# Altium integrated library Analog Devices Switches and Multiplexers Analog Switches.IntLib: 575 symbols (part 18 of 23)
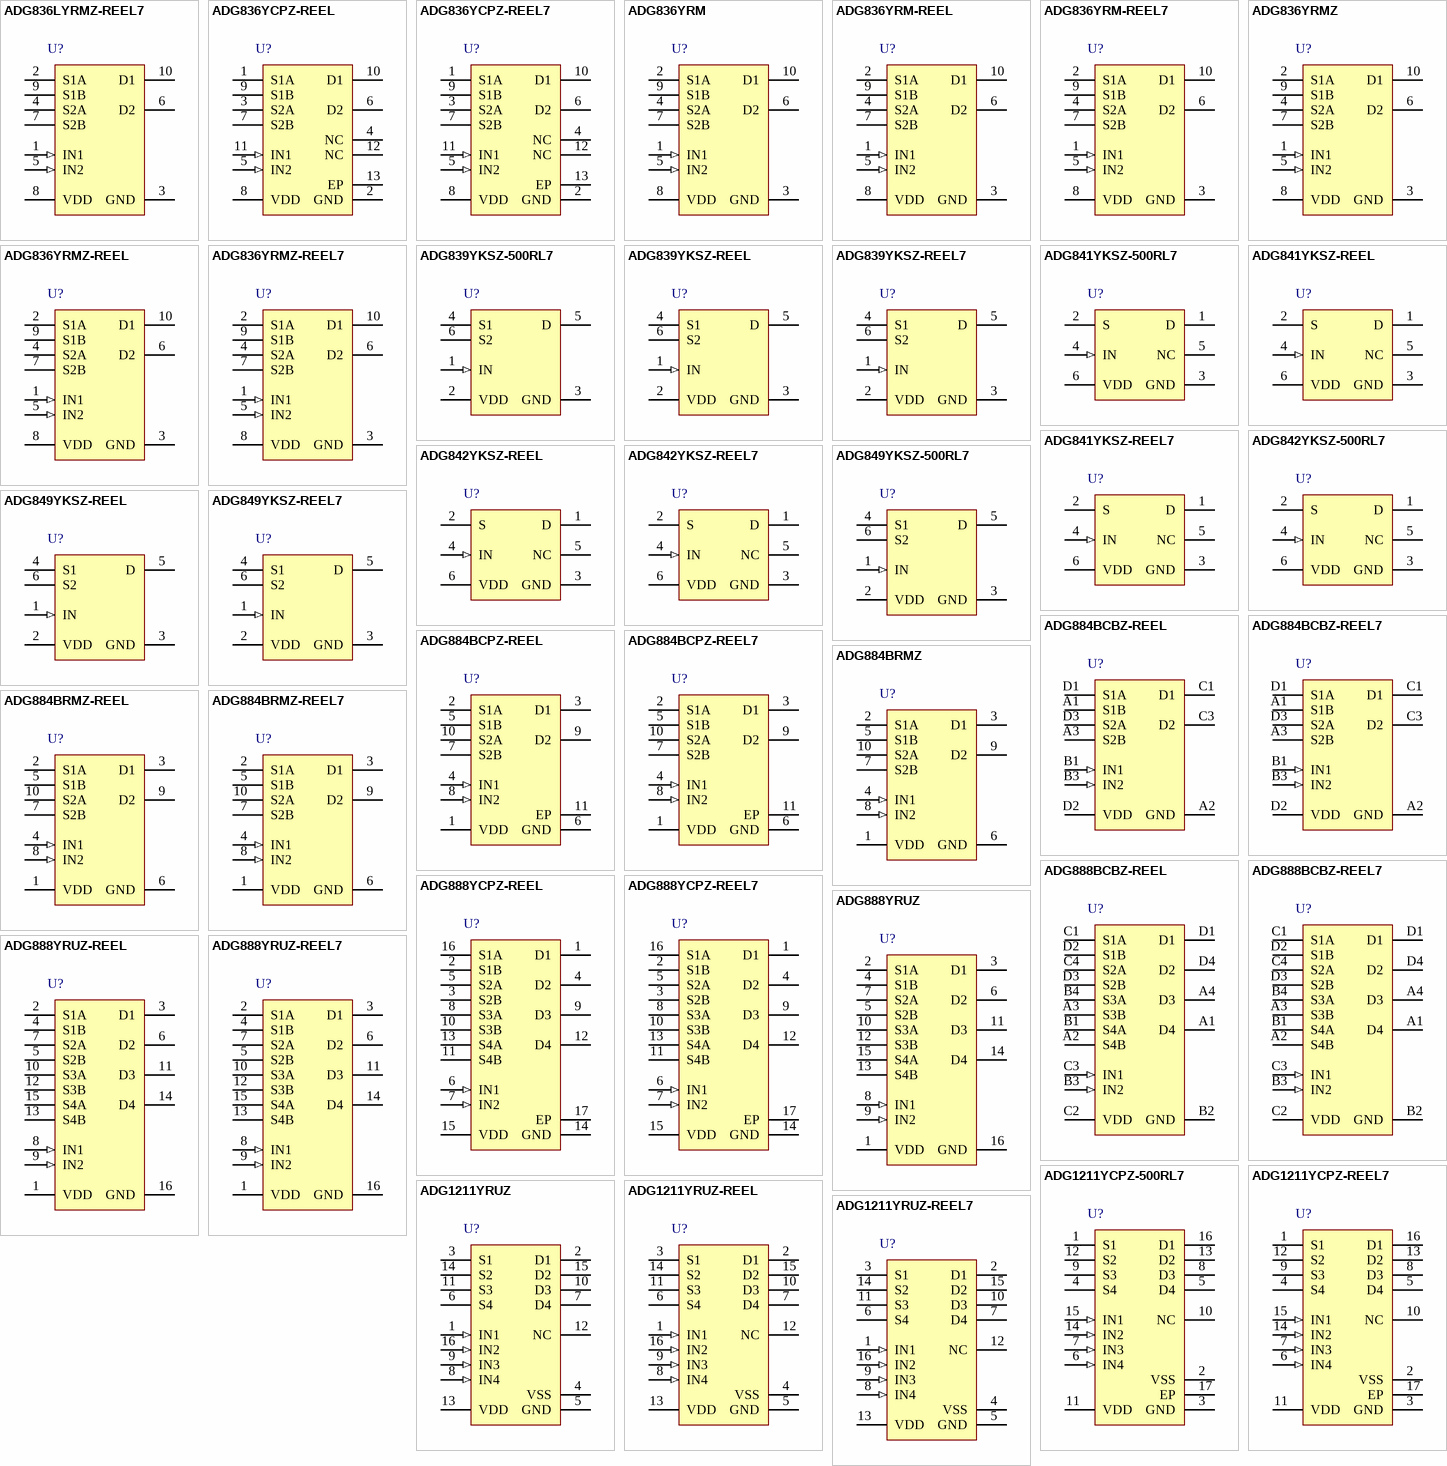
[diagram p32: symbols ADG836LYRMZ-REEL7 to ADG1211YRUZ-REEL7]

## ADG888YCPZ-REEL
designator U?
0.4 Ohm CMOS, Dual DPDT Switches, -40 to 125 degC, 16-pin QFN (CP-16-4), Reel; Manufacturer: Analog Devices; PartNumber: ADG888YCPZ-REEL; # Sw Functions: 2; Configuration: SPDT; Id, Is (ON): 200pA, 200pA, 200pA; Max Pos Supply: 5.5V; Min Pos Supply: 1.8V; Power Dissipation: 20uW; Ron (ohms): 0.4; DatasheetVersion: Rev. A; PackageVersion: 010606-0, 01/2006; PackageReference: CP-16-4; PackageDescription: 16-Pin Lead Frame Chip Scale Package, Body 4 x 4 mm, Pitch 0.65 mm; Supplier 1: Digi-Key; Supplier Part Number 1: ADG888YCPZ-REEL-ND; Supplier 2: Mouser; Supplier Part Number 2: 584-ADG888YCPZ-R; Is OFF: 200pA, 200pA, 200pA; Packing: Reel; Mounting Technology: Surface Mount; Code_JEDEC: MO-220-VGGC; ComponentLink1Description: Manufacturer URL; ComponentLink1URL: http://www.analog.com/en/index.html; ComponentLink2Description: Datasheet; ComponentLink2URL: http://www.analog.com/static/imported-files/data_sheets/ADG888.pdf; ComponentLink3Description: Package Specification; ComponentLink3URL: http://www.analog.com/static/imported-files/packages/46009454504174339653421710019CP_16_4.pdf
footprint CP-16-4_N (QFN, 16-Leads, Body 4x4mm, Pitch 0.65mm, Thermal Pad 2.1x2.1mm, IPC Medium Density)
footprint CP-16-4_L (QFN, 16-Leads, Body 4x4mm, Pitch 0.65mm, Thermal Pad 2.1x2.1mm, IPC High Density)
footprint CP-16-4_M (QFN, 16-Leads, Body 4x4mm, Pitch 0.65mm, Thermal Pad 2.1x2.1mm, IPC Low Density)
pins: 1 D1 "Drain Terminal. Can be an input or output.", 2 S1B "Source Terminal. Can be an input or output.", 3 S2B "Source Terminal. Can be an input or output.", 4 D2 "Drain Terminal. Can be an input or output.", 5 S2A "Source Terminal. Can be an input or output.", 6 IN1 (in) "Logic Control Input.", 7 IN2 (in) "Logic Control Input.", 8 S3A "Source Terminal. Can be an input or output.", 9 D3 "Drain Terminal. Can be an input or output.", 10 S3B "Source Terminal. Can be an input or output.", 11 S4B "Source Terminal. Can be an input or output.", 12 D4 "Drain Terminal. Can be an input or output.", 13 S4A "Source Terminal. Can be an input or output.", 14 GND (power) "Ground (0 V) Reference.", 15 VDD (power) "Most Positive Power Supply Potential.", 16 S1A "Source Terminal. Can be an input or output.", 17 EP "Exposed Pad Type"

## ADG888YCPZ-REEL7
designator U?
0.4 Ohm CMOS, Dual DPDT Switches, -40 to 125 degC, 16-pin QFN (CP-16-4), Reel; Manufacturer: Analog Devices; PartNumber: ADG888YCPZ-REEL7; # Sw Functions: 2; Configuration: SPDT; Id, Is (ON): 200pA, 200pA, 200pA; Max Pos Supply: 5.5V; Min Pos Supply: 1.8V; Power Dissipation: 20uW; Ron (ohms): 0.4; DatasheetVersion: Rev. A; PackageVersion: 010606-0, 01/2006; PackageReference: CP-16-4; PackageDescription: 16-Pin Lead Frame Chip Scale Package, Body 4 x 4 mm, Pitch 0.65 mm; Supplier 1: Digi-Key; Supplier Part Number 1: ADG888YCPZ-REEL7TR-ND; Supplier 2: Digi-Key; Supplier Part Number 2: ADG888YCPZ-REEL7CT-ND; Supplier 3: Digi-Key; Supplier Part Number 3: ADG888YCPZ-REEL7DKR-ND; Supplier 4: Farnell; Supplier Part Number 4: 2312951; Supplier 5: Newark; Supplier Part Number 5: 59K1681; Supplier 6: Newark; Supplier Part Number 6: 67W3132; Supplier 7: Mouser; Supplier Part Number 7: 584-ADG888YCPZ-R7; Is OFF: 200pA, 200pA, 200pA; Packing: Reel; Mounting Technology: Surface Mount; Code_JEDEC: MO-220-VGGC; ComponentLink1Description: Manufacturer URL; ComponentLink1URL: http://www.analog.com/en/index.html; ComponentLink2Description: Datasheet; ComponentLink2URL: http://www.analog.com/static/imported-files/data_sheets/ADG888.pdf; ComponentLink3Description: Package Specification; ComponentLink3URL: http://www.analog.com/static/imported-files/packages/46009454504174339653421710019CP_16_4.pdf
footprint CP-16-4_N (QFN, 16-Leads, Body 4x4mm, Pitch 0.65mm, Thermal Pad 2.1x2.1mm, IPC Medium Density)
footprint CP-16-4_L (QFN, 16-Leads, Body 4x4mm, Pitch 0.65mm, Thermal Pad 2.1x2.1mm, IPC High Density)
footprint CP-16-4_M (QFN, 16-Leads, Body 4x4mm, Pitch 0.65mm, Thermal Pad 2.1x2.1mm, IPC Low Density)
pins: 1 D1 "Drain Terminal. Can be an input or output.", 2 S1B "Source Terminal. Can be an input or output.", 3 S2B "Source Terminal. Can be an input or output.", 4 D2 "Drain Terminal. Can be an input or output.", 5 S2A "Source Terminal. Can be an input or output.", 6 IN1 (in) "Logic Control Input.", 7 IN2 (in) "Logic Control Input.", 8 S3A "Source Terminal. Can be an input or output.", 9 D3 "Drain Terminal. Can be an input or output.", 10 S3B "Source Terminal. Can be an input or output.", 11 S4B "Source Terminal. Can be an input or output.", 12 D4 "Drain Terminal. Can be an input or output.", 13 S4A "Source Terminal. Can be an input or output.", 14 GND (power) "Ground (0 V) Reference.", 15 VDD (power) "Most Positive Power Supply Potential.", 16 S1A "Source Terminal. Can be an input or output.", 17 EP "Exposed Pad Type"

## ADG888YRUZ
designator U?
0.4 Ohm CMOS, Dual DPDT Switches, -40 to 125 degC, 16-pin SOP (RU-16), Tube; Manufacturer: Analog Devices; PartNumber: ADG888YRUZ; # Sw Functions: 2; Configuration: SPDT; Id, Is (ON): 200pA, 200pA, 200pA; Max Pos Supply: 5.5V; Min Pos Supply: 1.8V; Power Dissipation: 20uW; Ron (ohms): 0.4; DatasheetVersion: Rev. A; PackageVersion: Nov-02; PackageReference: RU-16; PackageDescription: 16-Pin Thin Shrink Small Outline Package, Body 5 x 4.4 mm, Pitch 0.65 mm; Supplier 1: Digi-Key; Supplier Part Number 1: ADG888YRUZ-ND; Supplier 2: Farnell; Supplier Part Number 2: 1117866; Supplier 3: Newark; Supplier Part Number 3: 19M0698; Supplier 4: Mouser; Supplier Part Number 4: 584-ADG888YRUZ; Is OFF: 200pA, 200pA, 200pA; Packing: Tube; Mounting Technology: Surface Mount; Code_JEDEC: MO-153AB; ComponentLink1Description: Manufacturer URL; ComponentLink1URL: http://www.analog.com/en/index.html; ComponentLink2Description: Datasheet; ComponentLink2URL: http://www.analog.com/static/imported-files/data_sheets/ADG888.pdf; ComponentLink3Description: Package Specification; ComponentLink3URL: http:/www.analog.com/static/imported-files/packages/36244347913743854010197452789RU16.pdf
footprint ADI-RU-16_N (SOP, 16-Leads, Body 5x4.4mm, Pitch 0.65mm, IPC Medium Density)
footprint ADI-RU-16_L (SOP, 16-Leads, Body 5x4.4mm, Pitch 0.65mm, IPC High Density)
footprint ADI-RU-16_M (SOP, 16-Leads, Body 5x4.4mm, Pitch 0.65mm, IPC Low Density)
pins: 1 VDD (power) "Most Positive Power Supply Potential.", 2 S1A "Source Terminal. Can be an input or output.", 3 D1 "Drain Terminal. Can be an input or output.", 4 S1B "Source Terminal. Can be an input or output.", 5 S2B "Source Terminal. Can be an input or output.", 6 D2 "Drain Terminal. Can be an input or output.", 7 S2A "Source Terminal. Can be an input or output.", 8 IN1 (in) "Logic Control Input.", 9 IN2 (in) "Logic Control Input.", 10 S3A "Source Terminal. Can be an input or output.", 11 D3 "Drain Terminal. Can be an input or output.", 12 S3B "Source Terminal. Can be an input or output.", 13 S4B "Source Terminal. Can be an input or output.", 14 D4 "Drain Terminal. Can be an input or output.", 15 S4A "Source Terminal. Can be an input or output.", 16 GND (power) "Ground (0 V) Reference."

## ADG888YRUZ-REEL
designator U?
0.4 Ohm CMOS, Dual DPDT Switches, -40 to 125 degC, 16-pin SOP (RU-16), Reel; Manufacturer: Analog Devices; PartNumber: ADG888YRUZ-REEL; # Sw Functions: 2; Configuration: SPDT; Id, Is (ON): 200pA, 200pA, 200pA; Max Pos Supply: 5.5V; Min Pos Supply: 1.8V; Power Dissipation: 20uW; Ron (ohms): 0.4; DatasheetVersion: Rev. A; PackageVersion: Nov-02; PackageReference: RU-16; PackageDescription: 16-Pin Thin Shrink Small Outline Package, Body 5 x 4.4 mm, Pitch 0.65 mm; Supplier 1: Digi-Key; Supplier Part Number 1: ADG888YRUZ-REEL-ND; Supplier 2: Newark; Supplier Part Number 2: 59K1683; Supplier 3: Mouser; Supplier Part Number 3: 584-ADG888YRUZ-R; Is OFF: 200pA, 200pA, 200pA; Packing: Reel; Mounting Technology: Surface Mount; Code_JEDEC: MO-153AB; ComponentLink1Description: Manufacturer URL; ComponentLink1URL: http://www.analog.com/en/index.html; ComponentLink2Description: Datasheet; ComponentLink2URL: http://www.analog.com/static/imported-files/data_sheets/ADG888.pdf; ComponentLink3Description: Package Specification; ComponentLink3URL: http:/www.analog.com/static/imported-files/packages/36244347913743854010197452789RU16.pdf
footprint ADI-RU-16_N (SOP, 16-Leads, Body 5x4.4mm, Pitch 0.65mm, IPC Medium Density)
footprint ADI-RU-16_L (SOP, 16-Leads, Body 5x4.4mm, Pitch 0.65mm, IPC High Density)
footprint ADI-RU-16_M (SOP, 16-Leads, Body 5x4.4mm, Pitch 0.65mm, IPC Low Density)
pins: 1 VDD (power) "Most Positive Power Supply Potential.", 2 S1A "Source Terminal. Can be an input or output.", 3 D1 "Drain Terminal. Can be an input or output.", 4 S1B "Source Terminal. Can be an input or output.", 5 S2B "Source Terminal. Can be an input or output.", 6 D2 "Drain Terminal. Can be an input or output.", 7 S2A "Source Terminal. Can be an input or output.", 8 IN1 (in) "Logic Control Input.", 9 IN2 (in) "Logic Control Input.", 10 S3A "Source Terminal. Can be an input or output.", 11 D3 "Drain Terminal. Can be an input or output.", 12 S3B "Source Terminal. Can be an input or output.", 13 S4B "Source Terminal. Can be an input or output.", 14 D4 "Drain Terminal. Can be an input or output.", 15 S4A "Source Terminal. Can be an input or output.", 16 GND (power) "Ground (0 V) Reference."

## ADG888YRUZ-REEL7
designator U?
0.4 Ohm CMOS, Dual DPDT Switches, -40 to 125 degC, 16-pin SOP (RU-16), Reel; Manufacturer: Analog Devices; PartNumber: ADG888YRUZ-REEL7; # Sw Functions: 2; Configuration: SPDT; Id, Is (ON): 200pA, 200pA, 200pA; Max Pos Supply: 5.5V; Min Pos Supply: 1.8V; Power Dissipation: 20uW; Ron (ohms): 0.4; DatasheetVersion: Rev. A; PackageVersion: Nov-02; PackageReference: RU-16; PackageDescription: 16-Pin Thin Shrink Small Outline Package, Body 5 x 4.4 mm, Pitch 0.65 mm; Supplier 1: Digi-Key; Supplier Part Number 1: ADG888YRUZ-REEL7-ND; Supplier 2: Newark; Supplier Part Number 2: 59K1684; Supplier 3: Mouser; Supplier Part Number 3: 584-ADG888YRUZ-R7; Is OFF: 200pA, 200pA, 200pA; Packing: Reel; Mounting Technology: Surface Mount; Code_JEDEC: MO-153AB; ComponentLink1Description: Manufacturer URL; ComponentLink1URL: http://www.analog.com/en/index.html; ComponentLink2Description: Datasheet; ComponentLink2URL: http://www.analog.com/static/imported-files/data_sheets/ADG888.pdf; ComponentLink3Description: Package Specification; ComponentLink3URL: http:/www.analog.com/static/imported-files/packages/36244347913743854010197452789RU16.pdf
footprint ADI-RU-16_N (SOP, 16-Leads, Body 5x4.4mm, Pitch 0.65mm, IPC Medium Density)
footprint ADI-RU-16_L (SOP, 16-Leads, Body 5x4.4mm, Pitch 0.65mm, IPC High Density)
footprint ADI-RU-16_M (SOP, 16-Leads, Body 5x4.4mm, Pitch 0.65mm, IPC Low Density)
pins: 1 VDD (power) "Most Positive Power Supply Potential.", 2 S1A "Source Terminal. Can be an input or output.", 3 D1 "Drain Terminal. Can be an input or output.", 4 S1B "Source Terminal. Can be an input or output.", 5 S2B "Source Terminal. Can be an input or output.", 6 D2 "Drain Terminal. Can be an input or output.", 7 S2A "Source Terminal. Can be an input or output.", 8 IN1 (in) "Logic Control Input.", 9 IN2 (in) "Logic Control Input.", 10 S3A "Source Terminal. Can be an input or output.", 11 D3 "Drain Terminal. Can be an input or output.", 12 S3B "Source Terminal. Can be an input or output.", 13 S4B "Source Terminal. Can be an input or output.", 14 D4 "Drain Terminal. Can be an input or output.", 15 S4A "Source Terminal. Can be an input or output.", 16 GND (power) "Ground (0 V) Reference."

## ADG1211YCPZ-500RL7
designator U?
Low Capacitance, Low Charge Injection, +/-15 V / +12 V iCMOS Quad SPST Switches, 120 Ohm Ron, 16-pin QFN (CP-16-3), Reel; Manufacturer: Analog Devices; PartNumber: ADG1211YCPZ-500RL7; # Sw Functions: 4; DatasheetVersion: Rev. B; PackageReference: CP-16-3; PackageDescription: 16-Pin Lead Frame Chip Scale Package, Body 3 x 3 mm, Pitch 0.5 mm; Supplier 1: Digi-Key; Supplier Part Number 1: ADG1211YCPZ-500RL7TR-ND; Supplier 2: Digi-Key; Supplier Part Number 2: ADG1211YCPZ-500RL7CT-ND; Supplier 3: Digi-Key; Supplier Part Number 3: ADG1211YCPZ-500RL7DKR-ND; Supplier 4: Mouser; Supplier Part Number 4: 584-ADG1211YCPZ500R7; Configuration: SPST; Packing: Reel; Mounting Technology: Surface Mount; Code_JEDEC: MO-220-VEED-2; ComponentLink1Description: Manufacturer URL; ComponentLink1URL: http://www.analog.com/en/index.html; ComponentLink2Description: Datasheet; ComponentLink2URL: http://www.analog.com/static/imported-files/data_sheets/ADG1211_1212_1213.pdf; ComponentLink3Description: Package Specification; ComponentLink3URL: http://www.analog.com/static/imported-files/packages/PKG_PDF/LFCSP(CP)/CP_16_3.pdf
footprint ADI-CP-16-3_N (QFN, 16-Leads, Body 3x3mm, Pitch 0.5mm, Thermal Pad 1.5x1.5mm, IPC Medium Density)
footprint ADI-CP-16-3_L (QFN, 16-Leads, Body 3x3mm, Pitch 0.5mm, Thermal Pad 1.5x1.5mm, IPC High Density)
footprint ADI-CP-16-3_M (QFN, 16-Leads, Body 3x3mm, Pitch 0.5mm, Thermal Pad 1.5x1.5mm, IPC Low Density)
pins: 1 S1 "Source Terminal. Can be an input or output.", 2 VSS (power) "Most Negative Power Supply Potential.", 3 GND (power) "Ground (0 V) Reference.", 4 S4 "Source Terminal. Can be an input or output.", 5 D4 "Drain Terminal. Can be an input or output.", 6 IN4 (in) "Logic Control Input.", 7 IN3 (in) "Logic Control Input.", 8 D3 "Drain Terminal. Can be an input or output.", 9 S3 "Source Terminal. Can be an input or output.", 10 NC "No Internal Connection.", 11 VDD (power) "Most Positive Power Supply Potential.", 12 S2 "Source Terminal. Can be an input or output.", 13 D2 "Drain Terminal. Can be an input or output.", 14 IN2 (in) "Logic Control Input.", 15 IN1 (in) "Logic Control Input.", 16 D1 "Drain Terminal. Can be an input or output.", 17 EP (power) "EXPOSED PAD TIED TO SUBSTRATE, VSS."

## ADG1211YCPZ-REEL7
designator U?
Low Capacitance, Low Charge Injection, +/-15 V / +12 V iCMOS Quad SPST Switches, 120 Ohm Ron, 16-pin QFN (CP-16-3), Reel; Manufacturer: Analog Devices; PartNumber: ADG1211YCPZ-REEL7; # Sw Functions: 4; DatasheetVersion: Rev. B; PackageReference: CP-16-3; PackageDescription: 16-Pin Lead Frame Chip Scale Package, Body 3 x 3 mm, Pitch 0.5 mm; Supplier 1: Digi-Key; Supplier Part Number 1: ADG1211YCPZ-REEL7TR-ND; Supplier 2: Digi-Key; Supplier Part Number 2: ADG1211YCPZ-REEL7CT-ND; Supplier 3: Digi-Key; Supplier Part Number 3: ADG1211YCPZ-REEL7DKR-ND; Supplier 4: Mouser; Supplier Part Number 4: 584-ADG1211YCPZ-R7; Configuration: SPST; Packing: Reel; Mounting Technology: Surface Mount; Code_JEDEC: MO-220-VEED-2; ComponentLink1Description: Manufacturer URL; ComponentLink1URL: http://www.analog.com/en/index.html; ComponentLink2Description: Datasheet; ComponentLink2URL: http://www.analog.com/static/imported-files/data_sheets/ADG1211_1212_1213.pdf; ComponentLink3Description: Package Specification; ComponentLink3URL: http://www.analog.com/static/imported-files/packages/PKG_PDF/LFCSP(CP)/CP_16_3.pdf
footprint ADI-CP-16-3_N (QFN, 16-Leads, Body 3x3mm, Pitch 0.5mm, Thermal Pad 1.5x1.5mm, IPC Medium Density)
footprint ADI-CP-16-3_L (QFN, 16-Leads, Body 3x3mm, Pitch 0.5mm, Thermal Pad 1.5x1.5mm, IPC High Density)
footprint ADI-CP-16-3_M (QFN, 16-Leads, Body 3x3mm, Pitch 0.5mm, Thermal Pad 1.5x1.5mm, IPC Low Density)
pins: 1 S1 "Source Terminal. Can be an input or output.", 2 VSS (power) "Most Negative Power Supply Potential.", 3 GND (power) "Ground (0 V) Reference.", 4 S4 "Source Terminal. Can be an input or output.", 5 D4 "Drain Terminal. Can be an input or output.", 6 IN4 (in) "Logic Control Input.", 7 IN3 (in) "Logic Control Input.", 8 D3 "Drain Terminal. Can be an input or output.", 9 S3 "Source Terminal. Can be an input or output.", 10 NC "No Internal Connection.", 11 VDD (power) "Most Positive Power Supply Potential.", 12 S2 "Source Terminal. Can be an input or output.", 13 D2 "Drain Terminal. Can be an input or output.", 14 IN2 (in) "Logic Control Input.", 15 IN1 (in) "Logic Control Input.", 16 D1 "Drain Terminal. Can be an input or output.", 17 EP (power) "EXPOSED PAD TIED TO SUBSTRATE, VSS."

## ADG1211YRUZ
designator U?
Low Capacitance, Low Charge Injection, +/-15 V / +12 V iCMOS Quad SPST Switches, 120 Ohm Ron, 16-pin SOP (RU-16), Tube; Manufacturer: Analog Devices; PartNumber: ADG1211YRUZ; # Sw Functions: 4; DatasheetVersion: Rev. B; PackageVersion: Nov-02; PackageReference: RU-16; PackageDescription: 16-Pin Thin Shrink Small Outline Package, Body 5 x 4.4 mm, Pitch 0.65 mm; Supplier 1: Digi-Key; Supplier Part Number 1: ADG1211YRUZ-ND; Supplier 2: Farnell; Supplier Part Number 2: 1117871; Supplier 3: Newark; Supplier Part Number 3: 59K1155; Supplier 4: Mouser; Supplier Part Number 4: 584-ADG1211YRUZ; Configuration: SPST; Packing: Tube; Mounting Technology: Surface Mount; Code_JEDEC: MO-153AB; ComponentLink1Description: Manufacturer URL; ComponentLink1URL: http://www.analog.com/en/index.html; ComponentLink2Description: Datasheet; ComponentLink2URL: http://www.analog.com/static/imported-files/data_sheets/ADG1211_1212_1213.pdf; ComponentLink3Description: Package Specification; ComponentLink3URL: http:/www.analog.com/static/imported-files/packages/36244347913743854010197452789RU16.pdf
footprint ADI-RU-16_N (SOP, 16-Leads, Body 5x4.4mm, Pitch 0.65mm, IPC Medium Density)
footprint ADI-RU-16_L (SOP, 16-Leads, Body 5x4.4mm, Pitch 0.65mm, IPC High Density)
footprint ADI-RU-16_M (SOP, 16-Leads, Body 5x4.4mm, Pitch 0.65mm, IPC Low Density)
pins: 1 IN1 (in) "Logic Control Input.", 2 D1 "Drain Terminal. Can be an input or output.", 3 S1 "Source Terminal. Can be an input or output.", 4 VSS (power) "Most Negative Power Supply Potential.", 5 GND (power) "Ground (0 V) Reference.", 6 S4 "Source Terminal. Can be an input or output.", 7 D4 "Drain Terminal. Can be an input or output.", 8 IN4 (in) "Logic Control Input.", 9 IN3 (in) "Logic Control Input.", 10 D3 "Drain Terminal. Can be an input or output.", 11 S3 "Source Terminal. Can be an input or output.", 12 NC "No Internal Connection.", 13 VDD (power) "Most Positive Power Supply Potential.", 14 S2 "Source Terminal. Can be an input or output.", 15 D2 "Drain Terminal. Can be an input or output.", 16 IN2 (in) "Logic Control Input."

## ADG1211YRUZ-REEL
designator U?
Low Capacitance, Low Charge Injection, +/-15 V / +12 V iCMOS Quad SPST Switches, 120 Ohm Ron, 16-pin SOP (RU-16), Reel; Manufacturer: Analog Devices; PartNumber: ADG1211YRUZ-REEL; # Sw Functions: 4; DatasheetVersion: Rev. B; PackageVersion: Nov-02; PackageReference: RU-16; PackageDescription: 16-Pin Thin Shrink Small Outline Package, Body 5 x 4.4 mm, Pitch 0.65 mm; Supplier 1: Digi-Key; Supplier Part Number 1: ADG1211YRUZ-REEL-ND; Supplier 2: Newark; Supplier Part Number 2: 59K1156; Supplier 3: Mouser; Supplier Part Number 3: 584-ADG1211YRUZ-R; Configuration: SPST; Packing: Reel; Mounting Technology: Surface Mount; Code_JEDEC: MO-153AB; ComponentLink1Description: Manufacturer URL; ComponentLink1URL: http://www.analog.com/en/index.html; ComponentLink2Description: Datasheet; ComponentLink2URL: http://www.analog.com/static/imported-files/data_sheets/ADG1211_1212_1213.pdf; ComponentLink3Description: Package Specification; ComponentLink3URL: http:/www.analog.com/static/imported-files/packages/36244347913743854010197452789RU16.pdf
footprint ADI-RU-16_N (SOP, 16-Leads, Body 5x4.4mm, Pitch 0.65mm, IPC Medium Density)
footprint ADI-RU-16_L (SOP, 16-Leads, Body 5x4.4mm, Pitch 0.65mm, IPC High Density)
footprint ADI-RU-16_M (SOP, 16-Leads, Body 5x4.4mm, Pitch 0.65mm, IPC Low Density)
pins: 1 IN1 (in) "Logic Control Input.", 2 D1 "Drain Terminal. Can be an input or output.", 3 S1 "Source Terminal. Can be an input or output.", 4 VSS (power) "Most Negative Power Supply Potential.", 5 GND (power) "Ground (0 V) Reference.", 6 S4 "Source Terminal. Can be an input or output.", 7 D4 "Drain Terminal. Can be an input or output.", 8 IN4 (in) "Logic Control Input.", 9 IN3 (in) "Logic Control Input.", 10 D3 "Drain Terminal. Can be an input or output.", 11 S3 "Source Terminal. Can be an input or output.", 12 NC "No Internal Connection.", 13 VDD (power) "Most Positive Power Supply Potential.", 14 S2 "Source Terminal. Can be an input or output.", 15 D2 "Drain Terminal. Can be an input or output.", 16 IN2 (in) "Logic Control Input."

## ADG1211YRUZ-REEL7
designator U?
Low Capacitance, Low Charge Injection, +/-15 V / +12 V iCMOS Quad SPST Switches, 120 Ohm Ron, 16-pin SOP (RU-16), Reel; Manufacturer: Analog Devices; PartNumber: ADG1211YRUZ-REEL7; # Sw Functions: 4; DatasheetVersion: Rev. B; PackageVersion: Nov-02; PackageReference: RU-16; PackageDescription: 16-Pin Thin Shrink Small Outline Package, Body 5 x 4.4 mm, Pitch 0.65 mm; Supplier 1: Digi-Key; Supplier Part Number 1: ADG1211YRUZ-REEL7TR-ND; Supplier 2: Digi-Key; Supplier Part Number 2: ADG1211YRUZ-REEL7CT-ND; Supplier 3: Digi-Key; Supplier Part Number 3: ADG1211YRUZ-REEL7DKR-ND; Supplier 4: Mouser; Supplier Part Number 4: 584-ADG1211YRUZ-R7; Configuration: SPST; Packing: Reel; Mounting Technology: Surface Mount; Code_JEDEC: MO-153AB; ComponentLink1Description: Manufacturer URL; ComponentLink1URL: http://www.analog.com/en/index.html; ComponentLink2Description: Datasheet; ComponentLink2URL: http://www.analog.com/static/imported-files/data_sheets/ADG1211_1212_1213.pdf; ComponentLink3Description: Package Specification; ComponentLink3URL: http:/www.analog.com/static/imported-files/packages/36244347913743854010197452789RU16.pdf
footprint ADI-RU-16_N (SOP, 16-Leads, Body 5x4.4mm, Pitch 0.65mm, IPC Medium Density)
footprint ADI-RU-16_L (SOP, 16-Leads, Body 5x4.4mm, Pitch 0.65mm, IPC High Density)
footprint ADI-RU-16_M (SOP, 16-Leads, Body 5x4.4mm, Pitch 0.65mm, IPC Low Density)
pins: 1 IN1 (in) "Logic Control Input.", 2 D1 "Drain Terminal. Can be an input or output.", 3 S1 "Source Terminal. Can be an input or output.", 4 VSS (power) "Most Negative Power Supply Potential.", 5 GND (power) "Ground (0 V) Reference.", 6 S4 "Source Terminal. Can be an input or output.", 7 D4 "Drain Terminal. Can be an input or output.", 8 IN4 (in) "Logic Control Input.", 9 IN3 (in) "Logic Control Input.", 10 D3 "Drain Terminal. Can be an input or output.", 11 S3 "Source Terminal. Can be an input or output.", 12 NC "No Internal Connection.", 13 VDD (power) "Most Positive Power Supply Potential.", 14 S2 "Source Terminal. Can be an input or output.", 15 D2 "Drain Terminal. Can be an input or output.", 16 IN2 (in) "Logic Control Input."

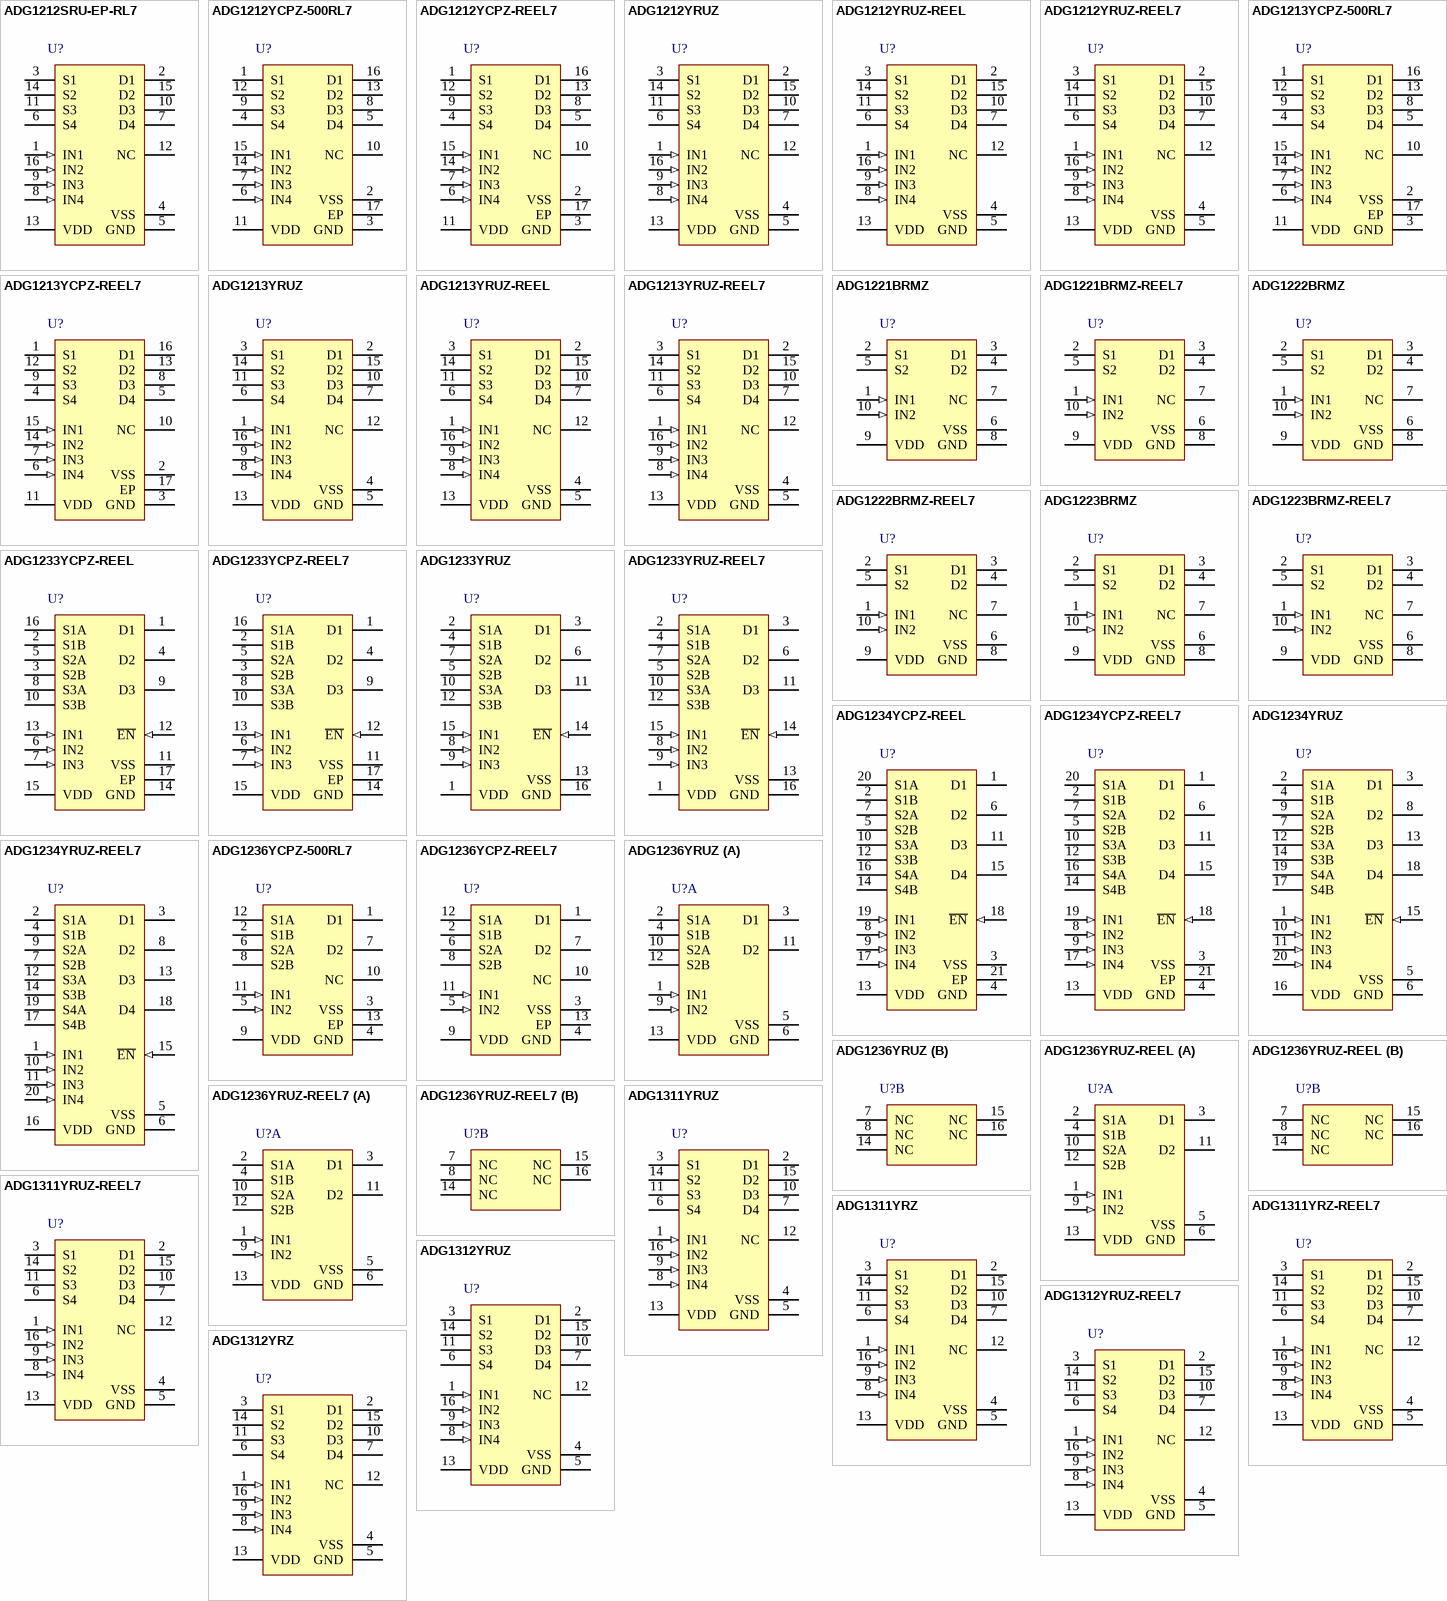
[diagram p12: symbols ADG1212SRU-EP-RL7 to ADG1312YRZ]

## ADG1212SRU-EP-RL7
designator U?
Low Capacitance, Low Charge Injection, +/-15 V / +12 V iCMOS Quad SPST Switches, 120 Ohm Ron, 16-pin SOP (RU-16), Reel; Manufacturer: Analog Devices; PartNumber: ADG1212SRU-EP-RL7; # Sw Functions: 4; DatasheetVersion: Rev. B; PackageVersion: Nov-02; PackageReference: RU-16; PackageDescription: 16-Pin Thin Shrink Small Outline Package, Body 5 x 4.4 mm, Pitch 0.65 mm; Supplier 1: Digi-Key; Supplier Part Number 1: ADG1212SRU-EP-RL7TR-ND; Supplier 2: Digi-Key; Supplier Part Number 2: ADG1212SRU-EP-RL7CT-ND; Supplier 3: Digi-Key; Supplier Part Number 3: ADG1212SRU-EP-RL7DKR-ND; Supplier 4: Mouser; Supplier Part Number 4: 584-ADG1212SRU-EP-R7; Configuration: SPST; Packing: Reel; Mounting Technology: Surface Mount; Code_JEDEC: MO-153AB; ComponentLink1Description: Manufacturer URL; ComponentLink1URL: http://www.analog.com/en/index.html; ComponentLink2Description: Datasheet; ComponentLink2URL: http://www.analog.com/static/imported-files/data_sheets/ADG1211_1212_1213.pdf; ComponentLink3Description: Package Specification; ComponentLink3URL: http:/www.analog.com/static/imported-files/packages/36244347913743854010197452789RU16.pdf
footprint ADI-RU-16_N (SOP, 16-Leads, Body 5x4.4mm, Pitch 0.65mm, IPC Medium Density)
footprint ADI-RU-16_L (SOP, 16-Leads, Body 5x4.4mm, Pitch 0.65mm, IPC High Density)
footprint ADI-RU-16_M (SOP, 16-Leads, Body 5x4.4mm, Pitch 0.65mm, IPC Low Density)
pins: 1 IN1 (in) "Logic Control Input.", 2 D1 "Drain Terminal. Can be an input or output.", 3 S1 "Source Terminal. Can be an input or output.", 4 VSS (power) "Most Negative Power Supply Potential.", 5 GND (power) "Ground (0 V) Reference.", 6 S4 "Source Terminal. Can be an input or output.", 7 D4 "Drain Terminal. Can be an input or output.", 8 IN4 (in) "Logic Control Input.", 9 IN3 (in) "Logic Control Input.", 10 D3 "Drain Terminal. Can be an input or output.", 11 S3 "Source Terminal. Can be an input or output.", 12 NC "No Internal Connection.", 13 VDD (power) "Most Positive Power Supply Potential.", 14 S2 "Source Terminal. Can be an input or output.", 15 D2 "Drain Terminal. Can be an input or output.", 16 IN2 (in) "Logic Control Input."

## ADG1212YCPZ-500RL7
designator U?
Low Capacitance, Low Charge Injection, +/-15 V / +12 V iCMOS Quad SPST Switches, 120 Ohm Ron, 16-pin QFN (CP-16-3), Reel; Manufacturer: Analog Devices; PartNumber: ADG1212YCPZ-500RL7; # Sw Functions: 4; DatasheetVersion: Rev. B; PackageReference: CP-16-3; PackageDescription: 16-Pin Lead Frame Chip Scale Package, Body 3 x 3 mm, Pitch 0.5 mm; Supplier 1: Digi-Key; Supplier Part Number 1: ADG1212YCPZ-500RL7TR-ND; Supplier 2: Digi-Key; Supplier Part Number 2: ADG1212YCPZ-500RL7CT-ND; Supplier 3: Digi-Key; Supplier Part Number 3: ADG1212YCPZ-500RL7DKR-ND; Supplier 4: Mouser; Supplier Part Number 4: 584-ADG1212YCPZ500R7; Configuration: SPST; Packing: Reel; Mounting Technology: Surface Mount; Code_JEDEC: MO-220-VEED-2; ComponentLink1Description: Manufacturer URL; ComponentLink1URL: http://www.analog.com/en/index.html; ComponentLink2Description: Datasheet; ComponentLink2URL: http://www.analog.com/static/imported-files/data_sheets/ADG1211_1212_1213.pdf; ComponentLink3Description: Package Specification; ComponentLink3URL: http://www.analog.com/static/imported-files/packages/PKG_PDF/LFCSP(CP)/CP_16_3.pdf
footprint ADI-CP-16-3_N (QFN, 16-Leads, Body 3x3mm, Pitch 0.5mm, Thermal Pad 1.5x1.5mm, IPC Medium Density)
footprint ADI-CP-16-3_L (QFN, 16-Leads, Body 3x3mm, Pitch 0.5mm, Thermal Pad 1.5x1.5mm, IPC High Density)
footprint ADI-CP-16-3_M (QFN, 16-Leads, Body 3x3mm, Pitch 0.5mm, Thermal Pad 1.5x1.5mm, IPC Low Density)
pins: 1 S1 "Source Terminal. Can be an input or output.", 2 VSS (power) "Most Negative Power Supply Potential.", 3 GND (power) "Ground (0 V) Reference.", 4 S4 "Source Terminal. Can be an input or output.", 5 D4 "Drain Terminal. Can be an input or output.", 6 IN4 (in) "Logic Control Input.", 7 IN3 (in) "Logic Control Input.", 8 D3 "Drain Terminal. Can be an input or output.", 9 S3 "Source Terminal. Can be an input or output.", 10 NC "No Internal Connection.", 11 VDD (power) "Most Positive Power Supply Potential.", 12 S2 "Source Terminal. Can be an input or output.", 13 D2 "Drain Terminal. Can be an input or output.", 14 IN2 (in) "Logic Control Input.", 15 IN1 (in) "Logic Control Input.", 16 D1 "Drain Terminal. Can be an input or output.", 17 EP (power) "EXPOSED PAD TIED TO SUBSTRATE, VSS."

## ADG1212YCPZ-REEL7
designator U?
Low Capacitance, Low Charge Injection, +/-15 V / +12 V iCMOS Quad SPST Switches, 120 Ohm Ron, 16-pin QFN (CP-16-3), Reel; Manufacturer: Analog Devices; PartNumber: ADG1212YCPZ-REEL7; # Sw Functions: 4; DatasheetVersion: Rev. B; PackageReference: CP-16-3; PackageDescription: 16-Pin Lead Frame Chip Scale Package, Body 3 x 3 mm, Pitch 0.5 mm; Supplier 1: Digi-Key; Supplier Part Number 1: ADG1212YCPZ-REEL7TR-ND; Supplier 2: Digi-Key; Supplier Part Number 2: ADG1212YCPZ-REEL7CT-ND; Supplier 3: Digi-Key; Supplier Part Number 3: ADG1212YCPZ-REEL7DKR-ND; Supplier 4: Mouser; Supplier Part Number 4: 584-ADG1212YCPZ-R7; Configuration: SPST; Packing: Reel; Mounting Technology: Surface Mount; Code_JEDEC: MO-220-VEED-2; ComponentLink1Description: Manufacturer URL; ComponentLink1URL: http://www.analog.com/en/index.html; ComponentLink2Description: Datasheet; ComponentLink2URL: http://www.analog.com/static/imported-files/data_sheets/ADG1211_1212_1213.pdf; ComponentLink3Description: Package Specification; ComponentLink3URL: http://www.analog.com/static/imported-files/packages/PKG_PDF/LFCSP(CP)/CP_16_3.pdf
footprint ADI-CP-16-3_N (QFN, 16-Leads, Body 3x3mm, Pitch 0.5mm, Thermal Pad 1.5x1.5mm, IPC Medium Density)
footprint ADI-CP-16-3_L (QFN, 16-Leads, Body 3x3mm, Pitch 0.5mm, Thermal Pad 1.5x1.5mm, IPC High Density)
footprint ADI-CP-16-3_M (QFN, 16-Leads, Body 3x3mm, Pitch 0.5mm, Thermal Pad 1.5x1.5mm, IPC Low Density)
pins: 1 S1 "Source Terminal. Can be an input or output.", 2 VSS (power) "Most Negative Power Supply Potential.", 3 GND (power) "Ground (0 V) Reference.", 4 S4 "Source Terminal. Can be an input or output.", 5 D4 "Drain Terminal. Can be an input or output.", 6 IN4 (in) "Logic Control Input.", 7 IN3 (in) "Logic Control Input.", 8 D3 "Drain Terminal. Can be an input or output.", 9 S3 "Source Terminal. Can be an input or output.", 10 NC "No Internal Connection.", 11 VDD (power) "Most Positive Power Supply Potential.", 12 S2 "Source Terminal. Can be an input or output.", 13 D2 "Drain Terminal. Can be an input or output.", 14 IN2 (in) "Logic Control Input.", 15 IN1 (in) "Logic Control Input.", 16 D1 "Drain Terminal. Can be an input or output.", 17 EP (power) "EXPOSED PAD TIED TO SUBSTRATE, VSS."

## ADG1212YRUZ
designator U?
Low Capacitance, Low Charge Injection, +/-15 V / +12 V iCMOS Quad SPST Switches, 120 Ohm Ron, 16-pin SOP (RU-16), Tube; Manufacturer: Analog Devices; PartNumber: ADG1212YRUZ; # Sw Functions: 4; DatasheetVersion: Rev. B; PackageVersion: Nov-02; PackageReference: RU-16; PackageDescription: 16-Pin Thin Shrink Small Outline Package, Body 5 x 4.4 mm, Pitch 0.65 mm; Supplier 1: Digi-Key; Supplier Part Number 1: ADG1212YRUZ-ND; Supplier 2: Farnell; Supplier Part Number 2: 1117870; Supplier 3: Newark; Supplier Part Number 3: 59K1159; Supplier 4: Mouser; Supplier Part Number 4: 584-ADG1212YRUZ; Configuration: SPST; Packing: Tube; Mounting Technology: Surface Mount; Code_JEDEC: MO-153AB; ComponentLink1Description: Manufacturer URL; ComponentLink1URL: http://www.analog.com/en/index.html; ComponentLink2Description: Datasheet; ComponentLink2URL: http://www.analog.com/static/imported-files/data_sheets/ADG1211_1212_1213.pdf; ComponentLink3Description: Package Specification; ComponentLink3URL: http:/www.analog.com/static/imported-files/packages/36244347913743854010197452789RU16.pdf
footprint ADI-RU-16_N (SOP, 16-Leads, Body 5x4.4mm, Pitch 0.65mm, IPC Medium Density)
footprint ADI-RU-16_L (SOP, 16-Leads, Body 5x4.4mm, Pitch 0.65mm, IPC High Density)
footprint ADI-RU-16_M (SOP, 16-Leads, Body 5x4.4mm, Pitch 0.65mm, IPC Low Density)
pins: 1 IN1 (in) "Logic Control Input.", 2 D1 "Drain Terminal. Can be an input or output.", 3 S1 "Source Terminal. Can be an input or output.", 4 VSS (power) "Most Negative Power Supply Potential.", 5 GND (power) "Ground (0 V) Reference.", 6 S4 "Source Terminal. Can be an input or output.", 7 D4 "Drain Terminal. Can be an input or output.", 8 IN4 (in) "Logic Control Input.", 9 IN3 (in) "Logic Control Input.", 10 D3 "Drain Terminal. Can be an input or output.", 11 S3 "Source Terminal. Can be an input or output.", 12 NC "No Internal Connection.", 13 VDD (power) "Most Positive Power Supply Potential.", 14 S2 "Source Terminal. Can be an input or output.", 15 D2 "Drain Terminal. Can be an input or output.", 16 IN2 (in) "Logic Control Input."

## ADG1212YRUZ-REEL
designator U?
Low Capacitance, Low Charge Injection, +/-15 V / +12 V iCMOS Quad SPST Switches, 120 Ohm Ron, 16-pin SOP (RU-16), Reel; Manufacturer: Analog Devices; PartNumber: ADG1212YRUZ-REEL; # Sw Functions: 4; DatasheetVersion: Rev. B; PackageVersion: Nov-02; PackageReference: RU-16; PackageDescription: 16-Pin Thin Shrink Small Outline Package, Body 5 x 4.4 mm, Pitch 0.65 mm; Supplier 1: Digi-Key; Supplier Part Number 1: ADG1212YRUZ-REEL-ND; Supplier 2: Mouser; Supplier Part Number 2: 584-ADG1212YRUZ-R; Configuration: SPST; Packing: Reel; Mounting Technology: Surface Mount; Code_JEDEC: MO-153AB; ComponentLink1Description: Manufacturer URL; ComponentLink1URL: http://www.analog.com/en/index.html; ComponentLink2Description: Datasheet; ComponentLink2URL: http://www.analog.com/static/imported-files/data_sheets/ADG1211_1212_1213.pdf; ComponentLink3Description: Package Specification; ComponentLink3URL: http:/www.analog.com/static/imported-files/packages/36244347913743854010197452789RU16.pdf
footprint ADI-RU-16_N (SOP, 16-Leads, Body 5x4.4mm, Pitch 0.65mm, IPC Medium Density)
footprint ADI-RU-16_L (SOP, 16-Leads, Body 5x4.4mm, Pitch 0.65mm, IPC High Density)
footprint ADI-RU-16_M (SOP, 16-Leads, Body 5x4.4mm, Pitch 0.65mm, IPC Low Density)
pins: 1 IN1 (in) "Logic Control Input.", 2 D1 "Drain Terminal. Can be an input or output.", 3 S1 "Source Terminal. Can be an input or output.", 4 VSS (power) "Most Negative Power Supply Potential.", 5 GND (power) "Ground (0 V) Reference.", 6 S4 "Source Terminal. Can be an input or output.", 7 D4 "Drain Terminal. Can be an input or output.", 8 IN4 (in) "Logic Control Input.", 9 IN3 (in) "Logic Control Input.", 10 D3 "Drain Terminal. Can be an input or output.", 11 S3 "Source Terminal. Can be an input or output.", 12 NC "No Internal Connection.", 13 VDD (power) "Most Positive Power Supply Potential.", 14 S2 "Source Terminal. Can be an input or output.", 15 D2 "Drain Terminal. Can be an input or output.", 16 IN2 (in) "Logic Control Input."

## ADG1212YRUZ-REEL7
designator U?
Low Capacitance, Low Charge Injection, +/-15 V / +12 V iCMOS Quad SPST Switches, 120 Ohm Ron, 16-pin SOP (RU-16), Reel; Manufacturer: Analog Devices; PartNumber: ADG1212YRUZ-REEL7; # Sw Functions: 4; DatasheetVersion: Rev. B; PackageVersion: Nov-02; PackageReference: RU-16; PackageDescription: 16-Pin Thin Shrink Small Outline Package, Body 5 x 4.4 mm, Pitch 0.65 mm; Supplier 1: Digi-Key; Supplier Part Number 1: ADG1212YRUZ-REEL7TR-ND; Supplier 2: Digi-Key; Supplier Part Number 2: ADG1212YRUZ-REEL7CT-ND; Supplier 3: Digi-Key; Supplier Part Number 3: ADG1212YRUZ-REEL7DKR-ND; Supplier 4: Mouser; Supplier Part Number 4: 584-ADG1212YRUZ-R7; Configuration: SPST; Packing: Reel; Mounting Technology: Surface Mount; Code_JEDEC: MO-153AB; ComponentLink1Description: Manufacturer URL; ComponentLink1URL: http://www.analog.com/en/index.html; ComponentLink2Description: Datasheet; ComponentLink2URL: http://www.analog.com/static/imported-files/data_sheets/ADG1211_1212_1213.pdf; ComponentLink3Description: Package Specification; ComponentLink3URL: http:/www.analog.com/static/imported-files/packages/36244347913743854010197452789RU16.pdf
footprint ADI-RU-16_N (SOP, 16-Leads, Body 5x4.4mm, Pitch 0.65mm, IPC Medium Density)
footprint ADI-RU-16_L (SOP, 16-Leads, Body 5x4.4mm, Pitch 0.65mm, IPC High Density)
footprint ADI-RU-16_M (SOP, 16-Leads, Body 5x4.4mm, Pitch 0.65mm, IPC Low Density)
pins: 1 IN1 (in) "Logic Control Input.", 2 D1 "Drain Terminal. Can be an input or output.", 3 S1 "Source Terminal. Can be an input or output.", 4 VSS (power) "Most Negative Power Supply Potential.", 5 GND (power) "Ground (0 V) Reference.", 6 S4 "Source Terminal. Can be an input or output.", 7 D4 "Drain Terminal. Can be an input or output.", 8 IN4 (in) "Logic Control Input.", 9 IN3 (in) "Logic Control Input.", 10 D3 "Drain Terminal. Can be an input or output.", 11 S3 "Source Terminal. Can be an input or output.", 12 NC "No Internal Connection.", 13 VDD (power) "Most Positive Power Supply Potential.", 14 S2 "Source Terminal. Can be an input or output.", 15 D2 "Drain Terminal. Can be an input or output.", 16 IN2 (in) "Logic Control Input."

## ADG1213YCPZ-500RL7
designator U?
Low Capacitance, Low Charge Injection, +/-15 V / +12 V iCMOS Quad SPST Switches, 120 Ohm Ron, 16-pin QFN (CP-16-3), Reel; Manufacturer: Analog Devices; PartNumber: ADG1213YCPZ-500RL7; # Sw Functions: 4; DatasheetVersion: Rev. B; PackageReference: CP-16-3; PackageDescription: 16-Pin Lead Frame Chip Scale Package, Body 3 x 3 mm, Pitch 0.5 mm; Supplier 1: Digi-Key; Supplier Part Number 1: ADG1213YCPZ-500RL7TR-ND; Supplier 2: Digi-Key; Supplier Part Number 2: ADG1213YCPZ-500RL7CT-ND; Supplier 3: Digi-Key; Supplier Part Number 3: ADG1213YCPZ-500RL7DKR-ND; Supplier 4: Mouser; Supplier Part Number 4: 584-ADG1213YCPZ500R7; Configuration: SPST; Packing: Reel; Mounting Technology: Surface Mount; Code_JEDEC: MO-220-VEED-2; ComponentLink1Description: Manufacturer URL; ComponentLink1URL: http://www.analog.com/en/index.html; ComponentLink2Description: Datasheet; ComponentLink2URL: http://www.analog.com/static/imported-files/data_sheets/ADG1211_1212_1213.pdf; ComponentLink3Description: Package Specification; ComponentLink3URL: http://www.analog.com/static/imported-files/packages/PKG_PDF/LFCSP(CP)/CP_16_3.pdf
footprint ADI-CP-16-3_N (QFN, 16-Leads, Body 3x3mm, Pitch 0.5mm, Thermal Pad 1.5x1.5mm, IPC Medium Density)
footprint ADI-CP-16-3_L (QFN, 16-Leads, Body 3x3mm, Pitch 0.5mm, Thermal Pad 1.5x1.5mm, IPC High Density)
footprint ADI-CP-16-3_M (QFN, 16-Leads, Body 3x3mm, Pitch 0.5mm, Thermal Pad 1.5x1.5mm, IPC Low Density)
pins: 1 S1 "Source Terminal. Can be an input or output.", 2 VSS (power) "Most Negative Power Supply Potential.", 3 GND (power) "Ground (0 V) Reference.", 4 S4 "Source Terminal. Can be an input or output.", 5 D4 "Drain Terminal. Can be an input or output.", 6 IN4 (in) "Logic Control Input.", 7 IN3 (in) "Logic Control Input.", 8 D3 "Drain Terminal. Can be an input or output.", 9 S3 "Source Terminal. Can be an input or output.", 10 NC "No Internal Connection.", 11 VDD (power) "Most Positive Power Supply Potential.", 12 S2 "Source Terminal. Can be an input or output.", 13 D2 "Drain Terminal. Can be an input or output.", 14 IN2 (in) "Logic Control Input.", 15 IN1 (in) "Logic Control Input.", 16 D1 "Drain Terminal. Can be an input or output.", 17 EP (power) "Exposed Pad tide to substrate, VSS."

## ADG1213YCPZ-REEL7
designator U?
Low Capacitance, Low Charge Injection, +/-15 V / +12 V iCMOS Quad SPST Switches, 120 Ohm Ron, 16-pin QFN (CP-16-3), Reel; Manufacturer: Analog Devices; PartNumber: ADG1213YCPZ-REEL7; # Sw Functions: 4; DatasheetVersion: Rev. B; PackageReference: CP-16-3; PackageDescription: 16-Pin Lead Frame Chip Scale Package, Body 3 x 3 mm, Pitch 0.5 mm; Supplier 1: Digi-Key; Supplier Part Number 1: ADG1213YCPZ-REEL7TR-ND; Supplier 2: Digi-Key; Supplier Part Number 2: ADG1213YCPZ-REEL7CT-ND; Supplier 3: Digi-Key; Supplier Part Number 3: ADG1213YCPZ-REEL7DKR-ND; Supplier 4: Mouser; Supplier Part Number 4: 584-ADG1213YCPZ-R7; Configuration: SPST; Packing: Reel; Mounting Technology: Surface Mount; Code_JEDEC: MO-220-VEED-2; ComponentLink1Description: Manufacturer URL; ComponentLink1URL: http://www.analog.com/en/index.html; ComponentLink2Description: Datasheet; ComponentLink2URL: http://www.analog.com/static/imported-files/data_sheets/ADG1211_1212_1213.pdf; ComponentLink3Description: Package Specification; ComponentLink3URL: http://www.analog.com/static/imported-files/packages/PKG_PDF/LFCSP(CP)/CP_16_3.pdf
footprint ADI-CP-16-3_N (QFN, 16-Leads, Body 3x3mm, Pitch 0.5mm, Thermal Pad 1.5x1.5mm, IPC Medium Density)
footprint ADI-CP-16-3_L (QFN, 16-Leads, Body 3x3mm, Pitch 0.5mm, Thermal Pad 1.5x1.5mm, IPC High Density)
footprint ADI-CP-16-3_M (QFN, 16-Leads, Body 3x3mm, Pitch 0.5mm, Thermal Pad 1.5x1.5mm, IPC Low Density)
pins: 1 S1 "Source Terminal. Can be an input or output.", 2 VSS (power) "Most Negative Power Supply Potential.", 3 GND (power) "Ground (0 V) Reference.", 4 S4 "Source Terminal. Can be an input or output.", 5 D4 "Drain Terminal. Can be an input or output.", 6 IN4 (in) "Logic Control Input.", 7 IN3 (in) "Logic Control Input.", 8 D3 "Drain Terminal. Can be an input or output.", 9 S3 "Source Terminal. Can be an input or output.", 10 NC "No Internal Connection.", 11 VDD (power) "Most Positive Power Supply Potential.", 12 S2 "Source Terminal. Can be an input or output.", 13 D2 "Drain Terminal. Can be an input or output.", 14 IN2 (in) "Logic Control Input.", 15 IN1 (in) "Logic Control Input.", 16 D1 "Drain Terminal. Can be an input or output.", 17 EP (power) "Exposed Pad tide to substrate, VSS."

## ADG1213YRUZ
designator U?
Low Capacitance, Low Charge Injection, +/-15 V / +12 V iCMOS Quad SPST Switches, 120 Ohm Ron, 16-pin SOP (RU-16), Tube; Manufacturer: Analog Devices; PartNumber: ADG1213YRUZ; # Sw Functions: 4; DatasheetVersion: Rev. B; PackageVersion: Nov-02; PackageReference: RU-16; PackageDescription: 16-Pin Thin Shrink Small Outline Package, Body 5 x 4.4 mm, Pitch 0.65 mm; Supplier 1: Digi-Key; Supplier Part Number 1: ADG1213YRUZ-ND; Supplier 2: Farnell; Supplier Part Number 2: 2376792; Supplier 3: Newark; Supplier Part Number 3: 59K1164; Supplier 4: Mouser; Supplier Part Number 4: 584-ADG1213YRUZ; Configuration: SPST; Packing: Tube; Mounting Technology: Surface Mount; Code_JEDEC: MO-153AB; ComponentLink1Description: Manufacturer URL; ComponentLink1URL: http://www.analog.com/en/index.html; ComponentLink2Description: Datasheet; ComponentLink2URL: http://www.analog.com/static/imported-files/data_sheets/ADG1211_1212_1213.pdf; ComponentLink3Description: Package Specification; ComponentLink3URL: http:/www.analog.com/static/imported-files/packages/36244347913743854010197452789RU16.pdf
footprint ADI-RU-16_N (SOP, 16-Leads, Body 5x4.4mm, Pitch 0.65mm, IPC Medium Density)
footprint ADI-RU-16_L (SOP, 16-Leads, Body 5x4.4mm, Pitch 0.65mm, IPC High Density)
footprint ADI-RU-16_M (SOP, 16-Leads, Body 5x4.4mm, Pitch 0.65mm, IPC Low Density)
pins: 1 IN1 (in) "Logic Control Input.", 2 D1 "Drain Terminal. Can be an input or output.", 3 S1 "Source Terminal. Can be an input or output.", 4 VSS (power) "Most Negative Power Supply Potential.", 5 GND (power) "Ground (0 V) Reference.", 6 S4 "Source Terminal. Can be an input or output.", 7 D4 "Drain Terminal. Can be an input or output.", 8 IN4 (in) "Logic Control Input.", 9 IN3 (in) "Logic Control Input.", 10 D3 "Drain Terminal. Can be an input or output.", 11 S3 "Source Terminal. Can be an input or output.", 12 NC "No Internal Connection.", 13 VDD (power) "Most Positive Power Supply Potential.", 14 S2 "Source Terminal. Can be an input or output.", 15 D2 "Drain Terminal. Can be an input or output.", 16 IN2 (in) "Logic Control Input."

## ADG1213YRUZ-REEL
designator U?
Low Capacitance, Low Charge Injection, +/-15 V / +12 V iCMOS Quad SPST Switches, 120 Ohm Ron, 16-pin SOP (RU-16), Reel; Manufacturer: Analog Devices; PartNumber: ADG1213YRUZ-REEL; # Sw Functions: 4; DatasheetVersion: Rev. B; PackageVersion: Nov-02; PackageReference: RU-16; PackageDescription: 16-Pin Thin Shrink Small Outline Package, Body 5 x 4.4 mm, Pitch 0.65 mm; Supplier 1: Digi-Key; Supplier Part Number 1: ADG1213YRUZ-REEL-ND; Supplier 2: Mouser; Supplier Part Number 2: 584-ADG1213YRUZ-R; Configuration: SPST; Packing: Reel; Mounting Technology: Surface Mount; Code_JEDEC: MO-153AB; ComponentLink1Description: Manufacturer URL; ComponentLink1URL: http://www.analog.com/en/index.html; ComponentLink2Description: Datasheet; ComponentLink2URL: http://www.analog.com/static/imported-files/data_sheets/ADG1211_1212_1213.pdf; ComponentLink3Description: Package Specification; ComponentLink3URL: http:/www.analog.com/static/imported-files/packages/36244347913743854010197452789RU16.pdf
footprint ADI-RU-16_N (SOP, 16-Leads, Body 5x4.4mm, Pitch 0.65mm, IPC Medium Density)
footprint ADI-RU-16_L (SOP, 16-Leads, Body 5x4.4mm, Pitch 0.65mm, IPC High Density)
footprint ADI-RU-16_M (SOP, 16-Leads, Body 5x4.4mm, Pitch 0.65mm, IPC Low Density)
pins: 1 IN1 (in) "Logic Control Input.", 2 D1 "Drain Terminal. Can be an input or output.", 3 S1 "Source Terminal. Can be an input or output.", 4 VSS (power) "Most Negative Power Supply Potential.", 5 GND (power) "Ground (0 V) Reference.", 6 S4 "Source Terminal. Can be an input or output.", 7 D4 "Drain Terminal. Can be an input or output.", 8 IN4 (in) "Logic Control Input.", 9 IN3 (in) "Logic Control Input.", 10 D3 "Drain Terminal. Can be an input or output.", 11 S3 "Source Terminal. Can be an input or output.", 12 NC "No Internal Connection.", 13 VDD (power) "Most Positive Power Supply Potential.", 14 S2 "Source Terminal. Can be an input or output.", 15 D2 "Drain Terminal. Can be an input or output.", 16 IN2 (in) "Logic Control Input."

## ADG1213YRUZ-REEL7
designator U?
Low Capacitance, Low Charge Injection, +/-15 V / +12 V iCMOS Quad SPST Switches, 120 Ohm Ron, 16-pin SOP (RU-16), Reel; Manufacturer: Analog Devices; PartNumber: ADG1213YRUZ-REEL7; # Sw Functions: 4; DatasheetVersion: Rev. B; PackageVersion: Nov-02; PackageReference: RU-16; PackageDescription: 16-Pin Thin Shrink Small Outline Package, Body 5 x 4.4 mm, Pitch 0.65 mm; Supplier 1: Digi-Key; Supplier Part Number 1: ADG1213YRUZ-REEL7-ND; Supplier 2: Mouser; Supplier Part Number 2: 584-ADG1213YRUZ-R7; Configuration: SPST; Packing: Reel; Mounting Technology: Surface Mount; Code_JEDEC: MO-153AB; ComponentLink1Description: Manufacturer URL; ComponentLink1URL: http://www.analog.com/en/index.html; ComponentLink2Description: Datasheet; ComponentLink2URL: http://www.analog.com/static/imported-files/data_sheets/ADG1211_1212_1213.pdf; ComponentLink3Description: Package Specification; ComponentLink3URL: http:/www.analog.com/static/imported-files/packages/36244347913743854010197452789RU16.pdf
footprint ADI-RU-16_N (SOP, 16-Leads, Body 5x4.4mm, Pitch 0.65mm, IPC Medium Density)
footprint ADI-RU-16_L (SOP, 16-Leads, Body 5x4.4mm, Pitch 0.65mm, IPC High Density)
footprint ADI-RU-16_M (SOP, 16-Leads, Body 5x4.4mm, Pitch 0.65mm, IPC Low Density)
pins: 1 IN1 (in) "Logic Control Input.", 2 D1 "Drain Terminal. Can be an input or output.", 3 S1 "Source Terminal. Can be an input or output.", 4 VSS (power) "Most Negative Power Supply Potential.", 5 GND (power) "Ground (0 V) Reference.", 6 S4 "Source Terminal. Can be an input or output.", 7 D4 "Drain Terminal. Can be an input or output.", 8 IN4 (in) "Logic Control Input.", 9 IN3 (in) "Logic Control Input.", 10 D3 "Drain Terminal. Can be an input or output.", 11 S3 "Source Terminal. Can be an input or output.", 12 NC "No Internal Connection.", 13 VDD (power) "Most Positive Power Supply Potential.", 14 S2 "Source Terminal. Can be an input or output.", 15 D2 "Drain Terminal. Can be an input or output.", 16 IN2 (in) "Logic Control Input."

## ADG1221BRMZ
designator U?
Low Capacitance, Low Charge Injection, +/-15 V / +12 V iCMOS(R) Dual SPST Switches, 120 Ohm Ron, 10-pin SOP (RM-10), Tube; Manufacturer: Analog Devices; PartNumber: ADG1221BRMZ; # Sw Functions: 2; DatasheetVersion: Rev. A; PackageVersion: Aug-05; PackageReference: RM-10; PackageDescription: 10-Pin Mini Small Outline Package, Body 3 x 3 mm, Pitch 0.5 mm; Supplier 1: Digi-Key; Supplier Part Number 1: ADG1221BRMZ-ND; Supplier 2: Farnell; Supplier Part Number 2: 1498696; Supplier 3: Newark; Supplier Part Number 3: 34M4781; Supplier 4: Mouser; Supplier Part Number 4: 584-ADG1221BRMZ; Configuration: SPST; Packing: Tube; Mounting Technology: Surface Mount; Code_JEDEC: MO-187-BA; ComponentLink1Description: Manufacturer URL; ComponentLink1URL: http://www.analog.com/en/index.html; ComponentLink2Description: Datasheet; ComponentLink2URL: http://www.analog.com/static/imported-files/data_sheets/ADG1221_1222_1223.pdf; ComponentLink3Description: Package Specification; ComponentLink3URL: http://www.analog.com/static/imported-files/packages/PKG_PDF/MSOP%28RM%29/RM_10.pdf
footprint ADI-RM-10_N (SOP, 10-Leads, Body 3x3mm, Pitch 0.5mm, IPC Medium Density)
footprint ADI-RM-10_L (SOP, 10-Leads, Body 3x3mm, Pitch 0.5mm, IPC High Density)
footprint ADI-RM-10_M (SOP, 10-Leads, Body 3x3mm, Pitch 0.5mm, IPC Low Density)
pins: 1 IN1 (in) "Logic Control Input.", 2 S1 "Source Terminal. Can be an input or output.", 3 D1 "Drain Terminal. Can be an input or output.", 4 D2 "Drain Terminal. Can be an input or output.", 5 S2 "Source Terminal. Can be an input or output.", 6 VSS (power) "Most Negative Power Supply Potential.", 7 NC "No Connect.", 8 GND (power) "Ground (0 V) Reference.", 9 VDD (power) "Most Positive Power Supply Potential.", 10 IN2 (in) "Logic Control Input."

## ADG1221BRMZ-REEL7
designator U?
Low Capacitance, Low Charge Injection, +/-15 V / +12 V iCMOS(R) Dual SPST Switches, 120 Ohm Ron, 10-pin SOP (RM-10), Reel; Manufacturer: Analog Devices; PartNumber: ADG1221BRMZ-REEL7; # Sw Functions: 2; DatasheetVersion: Rev. A; PackageVersion: Aug-05; PackageReference: RM-10; PackageDescription: 10-Pin Mini Small Outline Package, Body 3 x 3 mm, Pitch 0.5 mm; Supplier 1: Digi-Key; Supplier Part Number 1: ADG1221BRMZ-REEL7-ND; Supplier 2: Mouser; Supplier Part Number 2: 584-ADG1221BRMZ-R7; Configuration: SPST; Packing: Reel; Mounting Technology: Surface Mount; Code_JEDEC: MO-187-BA; ComponentLink1Description: Manufacturer URL; ComponentLink1URL: http://www.analog.com/en/index.html; ComponentLink2Description: Datasheet; ComponentLink2URL: http://www.analog.com/static/imported-files/data_sheets/ADG1221_1222_1223.pdf; ComponentLink3Description: Package Specification; ComponentLink3URL: http://www.analog.com/static/imported-files/packages/PKG_PDF/MSOP%28RM%29/RM_10.pdf
footprint ADI-RM-10_N (SOP, 10-Leads, Body 3x3mm, Pitch 0.5mm, IPC Medium Density)
footprint ADI-RM-10_L (SOP, 10-Leads, Body 3x3mm, Pitch 0.5mm, IPC High Density)
footprint ADI-RM-10_M (SOP, 10-Leads, Body 3x3mm, Pitch 0.5mm, IPC Low Density)
pins: 1 IN1 (in) "Logic Control Input.", 2 S1 "Source Terminal. Can be an input or output.", 3 D1 "Drain Terminal. Can be an input or output.", 4 D2 "Drain Terminal. Can be an input or output.", 5 S2 "Source Terminal. Can be an input or output.", 6 VSS (power) "Most Negative Power Supply Potential.", 7 NC "No Connect.", 8 GND (power) "Ground (0 V) Reference.", 9 VDD (power) "Most Positive Power Supply Potential.", 10 IN2 (in) "Logic Control Input."